# Altium integrated library BB Sample and Hold Amplifier.IntLib: 22 symbols
Pins are listed as number, name and electrical type; pins without a type are passive.

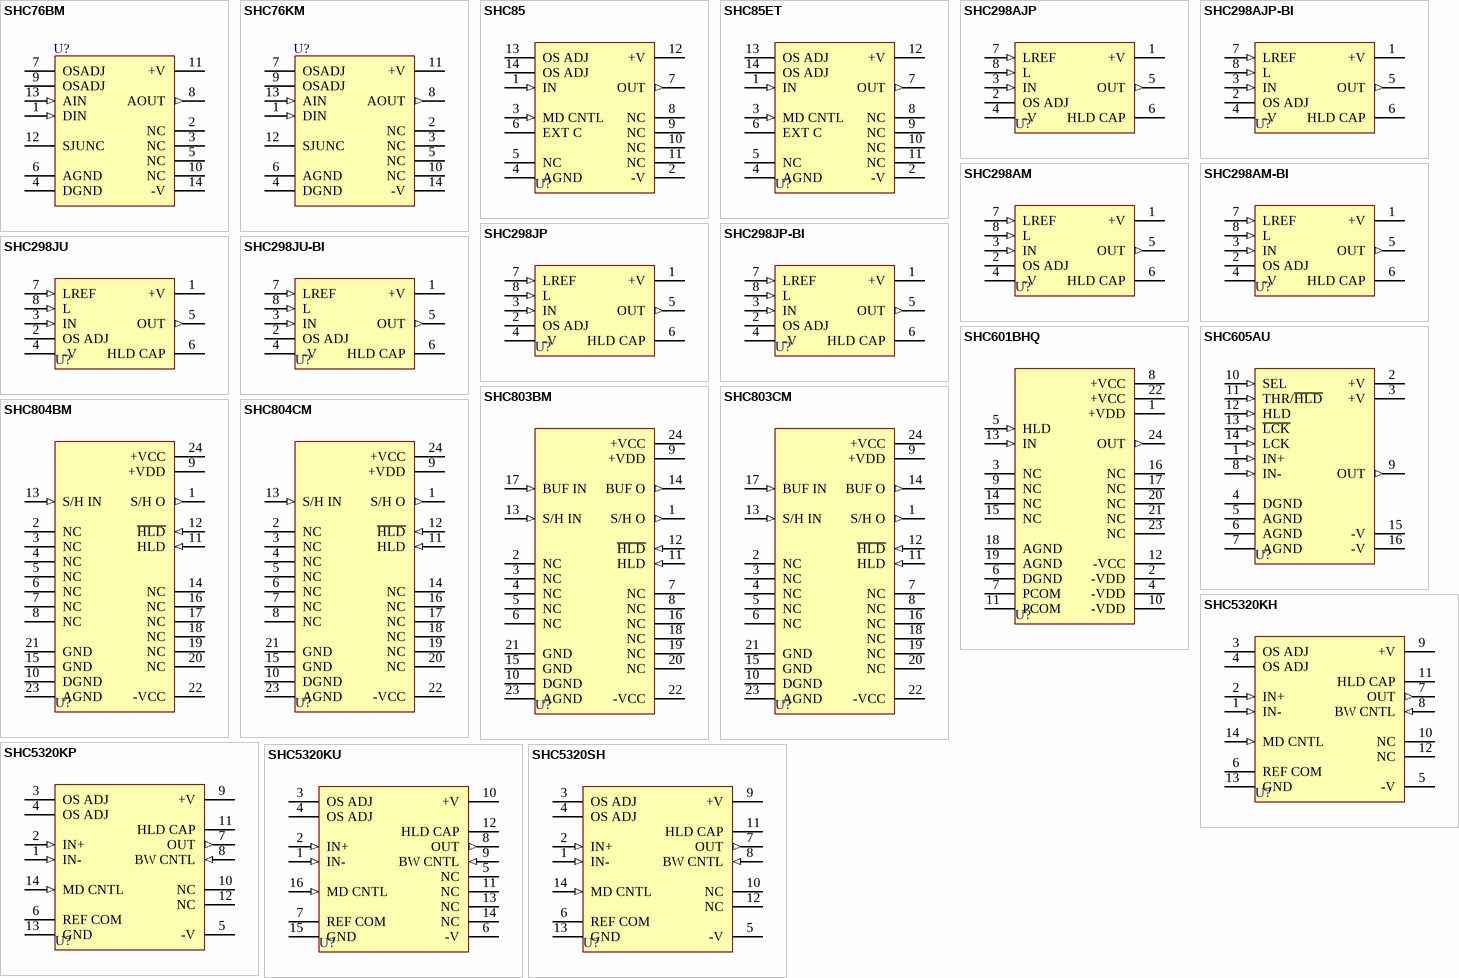
[diagram p0: symbols SHC76BM to SHC5320SH]

## SHC76BM
designator U?
Sample/Hold Amplifier; Note: Pins 2,3,5 and 10 are No internal Connection (NC) pins.; Published: 8-Jun-2000; LatestRevisionDate: 17-Jul-2002; LatestRevisionNote: Re-released for DXP Platform.; DatasheetVersion: 1989; PackageVersion: 1994; PackageReference: ZZ107; Publisher: Altium Limited; PackageDescription: DIP; 14 Round Pins; Row Space 7.62 mm; Pitch 2.54 mm; ComponentLink1Description: Manufacturer Link; ComponentLink1URL: http://www.ti.com/
footprint ZZ107 (DIP; 14 Round Pins; Row Space 7.62 mm; Pitch 2.54 mm)
pins: 1 DIN (in), 2 NC, 3 NC, 4 DGND (power), 5 NC, 6 AGND (power), 7 OSADJ, 8 AOUT (out), 9 OSADJ, 10 NC, 11 +V, 12 SJUNC, 13 AIN (in), 14 -V (power)

## SHC76KM
designator U?
Sample/Hold Amplifier; Note: Pins 2,3,5 and 10 are No internal Connection (NC) pins.; Published: 8-Jun-2000; LatestRevisionDate: 17-Jul-2002; LatestRevisionNote: Re-released for DXP Platform.; DatasheetVersion: 1989; PackageVersion: 1994; PackageReference: ZZ107; Publisher: Altium Limited; PackageDescription: DIP; 14 Round Pins; Row Space 7.62 mm; Pitch 2.54 mm; ComponentLink1Description: Manufacturer Link; ComponentLink1URL: http://www.ti.com/
footprint ZZ107 (DIP; 14 Round Pins; Row Space 7.62 mm; Pitch 2.54 mm)
pins: 1 DIN (in), 2 NC, 3 NC, 4 DGND (power), 5 NC, 6 AGND (power), 7 OSADJ, 8 AOUT (out), 9 OSADJ, 10 NC, 11 +V, 12 SJUNC, 13 AIN (in), 14 -V (power)

## SHC85
designator U?
Fast IC Sample/Hold Amplifier; Note: Pins 5 and 8-11 are No internal Connection (NC) pins.; Published: 8-Jun-2000; LatestRevisionDate: 17-Jul-2002; LatestRevisionNote: Re-released for DXP Platform.; DatasheetVersion: 1989; PackageVersion: 1994; PackageReference: ZZ107; Publisher: Altium Limited; PackageDescription: DIP; 14 Round Pins; Row Space 7.62 mm; Pitch 2.54 mm; ComponentLink1Description: Manufacturer Link; ComponentLink1URL: http://www.ti.com/
footprint ZZ107 (DIP; 14 Round Pins; Row Space 7.62 mm; Pitch 2.54 mm)
pins: 1 IN (in), 2 -V (power), 3 MD CNTL (in), 4 AGND (power), 5 NC, 6 EXT C, 7 OUT (out), 8 NC, 9 NC, 10 NC, 11 NC, 12 +V (power), 13 OS ADJ, 14 OS ADJ

## SHC85ET
designator U?
Fast IC Sample/Hold Amplifier; Note: Pins 5 and 8-11 are No internal Connection (NC) pins.; Published: 8-Jun-2000; LatestRevisionDate: 17-Jul-2002; LatestRevisionNote: Re-released for DXP Platform.; DatasheetVersion: 1989; PackageVersion: 1994; PackageReference: ZZ107; Publisher: Altium Limited; PackageDescription: DIP; 14 Round Pins; Row Space 7.62 mm; Pitch 2.54 mm; ComponentLink1Description: Manufacturer Link; ComponentLink1URL: http://www.ti.com/
footprint ZZ107 (DIP; 14 Round Pins; Row Space 7.62 mm; Pitch 2.54 mm)
pins: 1 IN (in), 2 -V (power), 3 MD CNTL (in), 4 AGND (power), 5 NC, 6 EXT C, 7 OUT (out), 8 NC, 9 NC, 10 NC, 11 NC, 12 +V (power), 13 OS ADJ, 14 OS ADJ

## SHC298AJP
designator U?
Monolithic Sample/Hold Amplifier; Published: 8-Jun-2000; LatestRevisionDate: 06-Jun-2005; LatestRevisionNote: Stylized 3D Model Added.; DatasheetVersion: Aug-1996; PackageVersion: revE; PackageReference: 006E; Publisher: Altium Limited; PackageDescription: DIP; 8 Leads; Row Spacing 7.62 mm; Pitch 2.54 mm; ComponentLink1Description: Manufacturer Link; ComponentLink1URL: http://www.ti.com/; ComponentLink2Description: Datasheet; ComponentLink2URL: http://www-s.ti.com/sc/ds/SHC298.pdf
footprint 006E (DIP; 8 Leads; Row Spacing 7.62 mm; Pitch 2.54 mm)
3D model DIP8 (DIP; 8 Leads; Row Spacing 7.62 mm; Pitch 2.54 mm)
pins: 1 +V (power), 2 OS ADJ, 3 IN (in), 4 -V (power), 5 OUT (out), 6 HLD CAP, 7 LREF (in), 8 L (in)

## SHC298AJP-BI
designator U?
Monolithic Sample/Hold Amplifier; ComponentAvailability: Obsolete; Published: 8-Jun-2000; LatestRevisionDate: 06-Jun-2005; LatestRevisionNote: Stylized 3D Model Added.; DatasheetVersion: 1996; PackageVersion: revE; PackageReference: 006E; Publisher: Altium Limited; PackageDescription: DIP; 8 Leads; Row Spacing 7.62 mm; Pitch 2.54 mm; ComponentLink1Description: Manufacturer Link; ComponentLink1URL: http://www.ti.com/; ComponentLink2Description: Datasheet; ComponentLink2URL: http://www-s.ti.com/sc/ds/shc298a.pdf
footprint 006E (DIP; 8 Leads; Row Spacing 7.62 mm; Pitch 2.54 mm)
3D model DIP8 (DIP; 8 Leads; Row Spacing 7.62 mm; Pitch 2.54 mm)
pins: 1 +V (power), 2 OS ADJ, 3 IN (in), 4 -V (power), 5 OUT (out), 6 HLD CAP, 7 LREF (in), 8 L (in)

## SHC298AM
designator U?
Monolithic Sample/Hold Amplifier; Published: 8-Jun-2000; LatestRevisionDate: 17-Jul-2002; LatestRevisionNote: Re-released for DXP Platform.; DatasheetVersion: Aug-1996; PackageVersion: revB; PackageReference: 001B; Publisher: Altium Limited; PackageDescription: Can; 8 Leads; Pin Circle Dia. 5.08 mm (TO-99); Lead Dia. 0.53 mm (max); ComponentLink1Description: Manufacturer Link; ComponentLink1URL: http://www.ti.com/; ComponentLink2Description: Datasheet; ComponentLink2URL: http://www-s.ti.com/sc/ds/SHC298.pdf
footprint 001B (Can; 8 Leads; Pin Circle Dia. 5.08 mm (TO-99); Lead Dia. 0.53 mm (max))
pins: 1 +V (power), 2 OS ADJ, 3 IN (in), 4 -V (power), 5 OUT (out), 6 HLD CAP, 7 LREF (in), 8 L (in)

## SHC298AM-BI
designator U?
Monolithic Sample/Hold Amplifier; ComponentAvailability: Obsolete; Published: 8-Jun-2000; LatestRevisionDate: 17-Jul-2002; LatestRevisionNote: Re-released for DXP Platform.; DatasheetVersion: 1996; PackageVersion: revB; PackageReference: 001B; Publisher: Altium Limited; PackageDescription: Can; 8 Leads; Pin Circle Dia. 5.08 mm (TO-99); Lead Dia. 0.53 mm (max); ComponentLink1Description: Manufacturer Link; ComponentLink1URL: http://www.ti.com/; ComponentLink2Description: Datasheet; ComponentLink2URL: http://www-s.ti.com/sc/ds/shc298a.pdf
footprint 001B (Can; 8 Leads; Pin Circle Dia. 5.08 mm (TO-99); Lead Dia. 0.53 mm (max))
pins: 1 +V (power), 2 OS ADJ, 3 IN (in), 4 -V (power), 5 OUT (out), 6 HLD CAP, 7 LREF (in), 8 L (in)

## SHC298JP
designator U?
Monolithic Sample/Hold Amplifier; Published: 8-Jun-2000; LatestRevisionDate: 06-Jun-2005; LatestRevisionNote: Stylized 3D Model Added.; DatasheetVersion: Aug-1996; PackageVersion: revE; PackageReference: 006E; Publisher: Altium Limited; PackageDescription: DIP; 8 Leads; Row Spacing 7.62 mm; Pitch 2.54 mm; ComponentLink1Description: Manufacturer Link; ComponentLink1URL: http://www.ti.com/; ComponentLink2Description: Datasheet; ComponentLink2URL: http://www-s.ti.com/sc/ds/SHC298.pdf
footprint 006E (DIP; 8 Leads; Row Spacing 7.62 mm; Pitch 2.54 mm)
3D model DIP8 (DIP; 8 Leads; Row Spacing 7.62 mm; Pitch 2.54 mm)
pins: 1 +V (power), 2 OS ADJ, 3 IN (in), 4 -V (power), 5 OUT (out), 6 HLD CAP, 7 LREF (in), 8 L (in)

## SHC298JP-BI
designator U?
Monolithic Sample/Hold Amplifier; ComponentAvailability: Obsolete; Published: 8-Jun-2000; LatestRevisionDate: 06-Jun-2005; LatestRevisionNote: Stylized 3D Model Added.; DatasheetVersion: 1996; PackageVersion: revE; PackageReference: 006E; Publisher: Altium Limited; PackageDescription: DIP; 8 Leads; Row Spacing 7.62 mm; Pitch 2.54 mm; ComponentLink1Description: Manufacturer Link; ComponentLink1URL: http://www.ti.com/; ComponentLink2Description: Datasheet; ComponentLink2URL: http://www-s.ti.com/sc/ds/shc298.pdf
footprint 006E (DIP; 8 Leads; Row Spacing 7.62 mm; Pitch 2.54 mm)
3D model DIP8 (DIP; 8 Leads; Row Spacing 7.62 mm; Pitch 2.54 mm)
pins: 1 +V (power), 2 OS ADJ, 3 IN (in), 4 -V (power), 5 OUT (out), 6 HLD CAP, 7 LREF (in), 8 L (in)

## SHC298JU
designator U?
Monolithic Sample/Hold Amplifier; Published: 8-Jun-2000; LatestRevisionDate: 13-Apr-2006; LatestRevisionNote: IPC-7351 Footprint Added.; DatasheetVersion: Aug-1996; PackageReference: 182H; Publisher: Altium Limited; PackageDescription: 8-Pin Small Outline Integrated Circuit 1.27 mm Pitch; Code_JEDEC: MS-012-AA; Code_IPC: SOIC127P600-8; ComponentLink1Description: Manufacturer Link; ComponentLink1URL: http://www.ti.com/; ComponentLink2Description: Datasheet; ComponentLink2URL: http://www-s.ti.com/sc/ds/SHC298.pdf
footprint 182H_N (SOIC, 8-Leads, Body 4.9x3.9mm, Pitch 1.27mm, IPC Medium Density)
footprint 182H_L (SOIC, 8-Leads, Body 4.9x3.9mm, Pitch 1.27mm, IPC High Density)
footprint 182H_M (SOIC, 8-Leads, Body 4.9x3.9mm, Pitch 1.27mm, IPC Low Density)
3D model SOIC8 (8-Pin Small Outline Integrated Circuit 1.27 mm Pitch)
pins: 1 +V (power), 2 OS ADJ, 3 IN (in), 4 -V (power), 5 OUT (out), 6 HLD CAP, 7 LREF (in), 8 L (in)

## SHC298JU-BI
designator U?
Monolithic Sample/Hold Amplifier; ComponentAvailability: Obsolete; Published: 8-Jun-2000; LatestRevisionDate: 13-Apr-2006; LatestRevisionNote: IPC-7351 Footprint Added.; DatasheetVersion: 1996; PackageReference: 182H; Publisher: Altium Limited; PackageDescription: 8-Pin Small Outline Integrated Circuit 1.27 mm Pitch; Code_JEDEC: MS-012-AA; Code_IPC: SOIC127P600-8; ComponentLink1Description: Manufacturer Link; ComponentLink1URL: http://www.ti.com/; ComponentLink2Description: Datasheet; ComponentLink2URL: http://www-s.ti.com/sc/ds/shc298.pdf
footprint 182H_N (SOIC, 8-Leads, Body 4.9x3.9mm, Pitch 1.27mm, IPC Medium Density)
footprint 182H_L (SOIC, 8-Leads, Body 4.9x3.9mm, Pitch 1.27mm, IPC High Density)
footprint 182H_M (SOIC, 8-Leads, Body 4.9x3.9mm, Pitch 1.27mm, IPC Low Density)
3D model SOIC8 (8-Pin Small Outline Integrated Circuit 1.27 mm Pitch)
pins: 1 +V (power), 2 OS ADJ, 3 IN (in), 4 -V (power), 5 OUT (out), 6 HLD CAP, 7 LREF (in), 8 L (in)

## SHC601BHQ
designator U?
Ultra-High-Speed Sample/Hold Amplifier; Note: Pins 3,9,14,15,16,17,20,21 and 23 are Not Connected; Published: 8-Jun-2000; LatestRevisionDate: 17-Jul-2002; LatestRevisionNote: PCB footprint, 'DIP-P24/X1.1' replaced, Re-released for DXP Platform.; DatasheetVersion: 1989; PackageVersion: 1989; PackageReference: H24; Publisher: Altium Limited; PackageDescription: DIP; 24 Rectangular Pins; Row Space 15.24 mm; Pitch 2.54 mm; ComponentLink1Description: Manufacturer Link; ComponentLink1URL: http://www.ti.com/
footprint H24 (DIP; 24 Rectangular Pins; Row Space 15.24 mm; Pitch 2.54 mm)
pins: 1 +VDD (power), 2 -VDD (power), 3 NC, 4 -VDD (power), 5 HLD (in), 6 DGND (power), 7 PCOM (power), 8 +VCC (power), 9 NC, 10 -VDD (power), 11 PCOM (power), 12 -VCC (power), 13 IN (in), 14 NC, 15 NC, 16 NC, 17 NC, 18 AGND (power), 19 AGND (power), 20 NC, 21 NC, 22 +VCC (power), 23 NC, 24 OUT (out)

## SHC605AU
designator U?
High-Speed Operational Track-and-Hold Amplifier; Published: 8-Jun-2000; LatestRevisionDate: 13-Apr-2006; LatestRevisionNote: IPC-7351 Footprint Added.; DatasheetVersion: Jul-1993; PackageVersion: 1994; PackageReference: ZZ265; Publisher: Altium Limited; PackageDescription: 16-Pin Small Outline Integrated Circuit 1.27 mm Pitch; Code_JEDEC: MS-012-AC; Code_IPC: SOIC127P600-16; ComponentLink1Description: Manufacturer Link; ComponentLink1URL: http://www.ti.com/; ComponentLink2Description: Datasheet; ComponentLink2URL: http://www-s.ti.com/sc/ds/SHC605.pdf
footprint ZZ265_N (SOIC, 16-Leads, Body 9.9x3.9mm, Pitch 1.27mm, IPC Medium Density)
footprint ZZ265_L (SOIC, 16-Leads, Body 9.9x3.9mm, Pitch 1.27mm, IPC High Density)
footprint ZZ265_M (SOIC, 16-Leads, Body 9.9x3.9mm, Pitch 1.27mm, IPC Low Density)
3D model ZZ265 (16-Pin Small Outline Integrated Circuit 1.27 mm Pitch)
pins: 1 IN+ (in), 2 +V (power), 3 +V (power), 4 DGND (power), 5 AGND (power), 6 AGND (power), 7 AGND (power), 8 IN- (in), 9 OUT (out), 10 SEL (in), 11 THR/~{HLD} (in), 12 HLD (in), 13 ~{LCK} (in), 14 LCK (in), 15 -V (power), 16 -V (power)

## SHC803BM
designator U?
Ultra-High-Speed Sample/Hold Amplifier; Note: Pins 2-8,16,18,19 and 20 are No internal Connection (NC) pins. Pin 23 connected to case.; Published: 8-Jun-2000; LatestRevisionDate: 17-Jul-2002; LatestRevisionNote: Re-released for DXP Platform.; DatasheetVersion: 1989; PackageVersion: 1994; PackageReference: ZZ113; Publisher: Altium Limited; PackageDescription: DIP; 24 Round Pins; Row Space 15.24 mm; Pitch 2.54 mm; ComponentLink1Description: Manufacturer Link; ComponentLink1URL: http://www.ti.com/
footprint ZZ113 (DIP; 24 Round Pins; Row Space 15.24 mm; Pitch 2.54 mm)
pins: 1 S/H O (out), 2 NC, 3 NC, 4 NC, 5 NC, 6 NC, 7 NC, 8 NC, 9 +VDD (power), 10 DGND (power), 11 HLD (in), 12 ~{HLD} (in), 13 S/H IN (in), 14 BUF O (out), 15 GND (power), 16 NC, 17 BUF IN (in), 18 NC, 19 NC, 20 NC, 21 GND (power), 22 -VCC (power), 23 AGND (power), 24 +VCC (power)

## SHC803CM
designator U?
Ultra-High-Speed Sample/Hold Amplifier; Note: Pins 2-8,16,18,19 and 20 are No internal Connection (NC) pins. Pin 23 connected to case.; Published: 8-Jun-2000; LatestRevisionDate: 17-Jul-2002; LatestRevisionNote: Re-released for DXP Platform.; DatasheetVersion: 1989; PackageVersion: 1994; PackageReference: ZZ113; Publisher: Altium Limited; PackageDescription: DIP; 24 Round Pins; Row Space 15.24 mm; Pitch 2.54 mm; ComponentLink1Description: Manufacturer Link; ComponentLink1URL: http://www.ti.com/
footprint ZZ113 (DIP; 24 Round Pins; Row Space 15.24 mm; Pitch 2.54 mm)
pins: 1 S/H O (out), 2 NC, 3 NC, 4 NC, 5 NC, 6 NC, 7 NC, 8 NC, 9 +VDD (power), 10 DGND (power), 11 HLD (in), 12 ~{HLD} (in), 13 S/H IN (in), 14 BUF O (out), 15 GND (power), 16 NC, 17 BUF IN (in), 18 NC, 19 NC, 20 NC, 21 GND (power), 22 -VCC (power), 23 AGND (power), 24 +VCC (power)

## SHC804BM
designator U?
Ultra-High-Speed Sample/Hold Amplifier; Note: Pins 2-8, 14 and 16-20 are No internal Connection (NC) pins. Pin 23 connected to case.; Published: 8-Jun-2000; LatestRevisionDate: 17-Jul-2002; LatestRevisionNote: Re-released for DXP Platform.; DatasheetVersion: 1989; PackageVersion: 1994; PackageReference: ZZ113; Publisher: Altium Limited; PackageDescription: DIP; 24 Round Pins; Row Space 15.24 mm; Pitch 2.54 mm; ComponentLink1Description: Manufacturer Link; ComponentLink1URL: http://www.ti.com/
footprint ZZ113 (DIP; 24 Round Pins; Row Space 15.24 mm; Pitch 2.54 mm)
pins: 1 S/H O (out), 2 NC, 3 NC, 4 NC, 5 NC, 6 NC, 7 NC, 8 NC, 9 +VDD (power), 10 DGND (power), 11 HLD (in), 12 ~{HLD} (in), 13 S/H IN (in), 14 NC, 15 GND (power), 16 NC, 17 NC, 18 NC, 19 NC, 20 NC, 21 GND (power), 22 -VCC (power), 23 AGND (power), 24 +VCC (power)

## SHC804CM
designator U?
Ultra-High-Speed Sample/Hold Amplifier; Note: Pins 2-8, 14 and 16-20 are No internal Connection (NC) pins. Pin 23 connected to case.; Published: 8-Jun-2000; LatestRevisionDate: 17-Jul-2002; LatestRevisionNote: Re-released for DXP Platform.; DatasheetVersion: 1989; PackageVersion: 1994; PackageReference: ZZ113; Publisher: Altium Limited; PackageDescription: DIP; 24 Round Pins; Row Space 15.24 mm; Pitch 2.54 mm; ComponentLink1Description: Manufacturer Link; ComponentLink1URL: http://www.ti.com/
footprint ZZ113 (DIP; 24 Round Pins; Row Space 15.24 mm; Pitch 2.54 mm)
pins: 1 S/H O (out), 2 NC, 3 NC, 4 NC, 5 NC, 6 NC, 7 NC, 8 NC, 9 +VDD (power), 10 DGND (power), 11 HLD (in), 12 ~{HLD} (in), 13 S/H IN (in), 14 NC, 15 GND (power), 16 NC, 17 NC, 18 NC, 19 NC, 20 NC, 21 GND (power), 22 -VCC (power), 23 AGND (power), 24 +VCC (power)

## SHC5320KH
designator U?
High-Speed Bipolar Monolithic Sample/Hold Amplifier; Note: Pins 10 and 12 are No internal Connection (NC) pins.; Published: 8-Jun-2000; LatestRevisionDate: 06-Jun-2005; LatestRevisionNote: Stylized 3D Model Added.; DatasheetVersion: Feb-1993; PackageVersion: revC; PackageReference: 163C; Publisher: Altium Limited; PackageDescription: DIP; 14 Leads; Row Spacing 7.62 mm; Pitch 2.54 mm; ComponentLink1Description: Manufacturer Link; ComponentLink1URL: http://www.ti.com/; ComponentLink2Description: Datasheet; ComponentLink2URL: http://www-s.ti.com/sc/ds/SHC5320.pdf
footprint 163C (DIP; 14 Leads; Row Spacing 7.62 mm; Pitch 2.54 mm)
3D model 010G (DIP; 14 Leads; Row Spacing 7.62 mm; Pitch 2.54 mm)
pins: 1 IN- (in), 2 IN+ (in), 3 OS ADJ, 4 OS ADJ, 5 -V (power), 6 REF COM (power), 7 OUT (out), 8 BW CNTL (in), 9 +V (power), 10 NC, 11 HLD CAP, 12 NC, 13 GND (power), 14 MD CNTL (in)

## SHC5320KP
designator U?
High-Speed Bipolar Monolithic Sample/Hold Amplifier; Note: Pins 10 and 12 are No internal Connection (NC) pins.; Published: 8-Jun-2000; LatestRevisionDate: 06-Jun-2005; LatestRevisionNote: Stylized 3D Model Added.; DatasheetVersion: Feb-1993; PackageVersion: 1996/1997; PackageReference: 010G; Publisher: Altium Limited; PackageDescription: DIP; 14 Leads; Row Spacing 7.62 mm; Pitch 2.54 mm; ComponentLink1Description: Manufacturer Link; ComponentLink1URL: http://www.ti.com/; ComponentLink2Description: Datasheet; ComponentLink2URL: http://www-s.ti.com/sc/ds/SHC5320.pdf
footprint 010G (DIP; 14 Leads; Row Spacing 7.62 mm; Pitch 2.54 mm)
3D model 010G (DIP; 14 Leads; Row Spacing 7.62 mm; Pitch 2.54 mm)
pins: 1 IN- (in), 2 IN+ (in), 3 OS ADJ, 4 OS ADJ, 5 -V (power), 6 REF COM (power), 7 OUT (out), 8 BW CNTL (in), 9 +V (power), 10 NC, 11 HLD CAP, 12 NC, 13 GND (power), 14 MD CNTL (in)

## SHC5320KU
designator U?
High-Speed Bipolar Monolithic Sample/Hold Amplifier; Note: Pins 5,11,13 and 14 are No internal Connection (NC) pins.; Published: 8-Jun-2000; LatestRevisionDate: 13-Apr-2006; LatestRevisionNote: IPC-7351 Footprint Added.; DatasheetVersion: Feb-1993; PackageReference: 211F; Publisher: Altium Limited; PackageDescription: 16-Pin Small Outline Integrated Circuit 1.27 mm Pitch; Code_JEDEC: MS-013-AA; Code_IPC: SOIC127P1030-16; ComponentLink1Description: Manufacturer Link; ComponentLink1URL: http://www.ti.com/; ComponentLink2Description: Datasheet; ComponentLink2URL: http://www-s.ti.com/sc/ds/SHC5320.pdf
footprint 211F_N (SOIC, 16-Leads, Body 10.3x7.5mm, Pitch 1.27mm, IPC Medium Density)
footprint 211F_L (SOIC, 16-Leads, Body 10.3x7.5mm, Pitch 1.27mm, IPC High Density)
footprint 211F_M (SOIC, 16-Leads, Body 10.3x7.5mm, Pitch 1.27mm, IPC Low Density)
3D model SOIC16 (16-Pin Small Outline Integrated Circuit 1.27 mm Pitch)
pins: 1 IN- (in), 2 IN+ (in), 3 OS ADJ, 4 OS ADJ, 5 NC, 6 -V (power), 7 REF COM (power), 8 OUT (out), 9 BW CNTL (in), 10 +V (power), 11 NC, 12 HLD CAP, 13 NC, 14 NC, 15 GND (power), 16 MD CNTL (in)

## SHC5320SH
designator U?
High-Speed Bipolar Monolithic Sample/Hold Amplifier; Note: Pins 10 and 12 are No internal Connection (NC) pins.; Published: 8-Jun-2000; LatestRevisionDate: 06-Jun-2005; LatestRevisionNote: Stylized 3D Model Added.; DatasheetVersion: Feb-1993; PackageVersion: revC; PackageReference: 163C; Publisher: Altium Limited; PackageDescription: DIP; 14 Leads; Row Spacing 7.62 mm; Pitch 2.54 mm; ComponentLink1Description: Manufacturer Link; ComponentLink1URL: http://www.ti.com/; ComponentLink2Description: Datasheet; ComponentLink2URL: http://www-s.ti.com/sc/ds/SHC5320.pdf
footprint 163C (DIP; 14 Leads; Row Spacing 7.62 mm; Pitch 2.54 mm)
3D model 010G (DIP; 14 Leads; Row Spacing 7.62 mm; Pitch 2.54 mm)
pins: 1 IN- (in), 2 IN+ (in), 3 OS ADJ, 4 OS ADJ, 5 -V (power), 6 REF COM (power), 7 OUT (out), 8 BW CNTL (in), 9 +V (power), 10 NC, 11 HLD CAP, 12 NC, 13 GND (power), 14 MD CNTL (in)